# Altium integrated library Silicon Labs Audio.IntLib: 141 symbols (part 1 of 7)
Pins are listed as number, name and electrical type; pins without a type are passive.

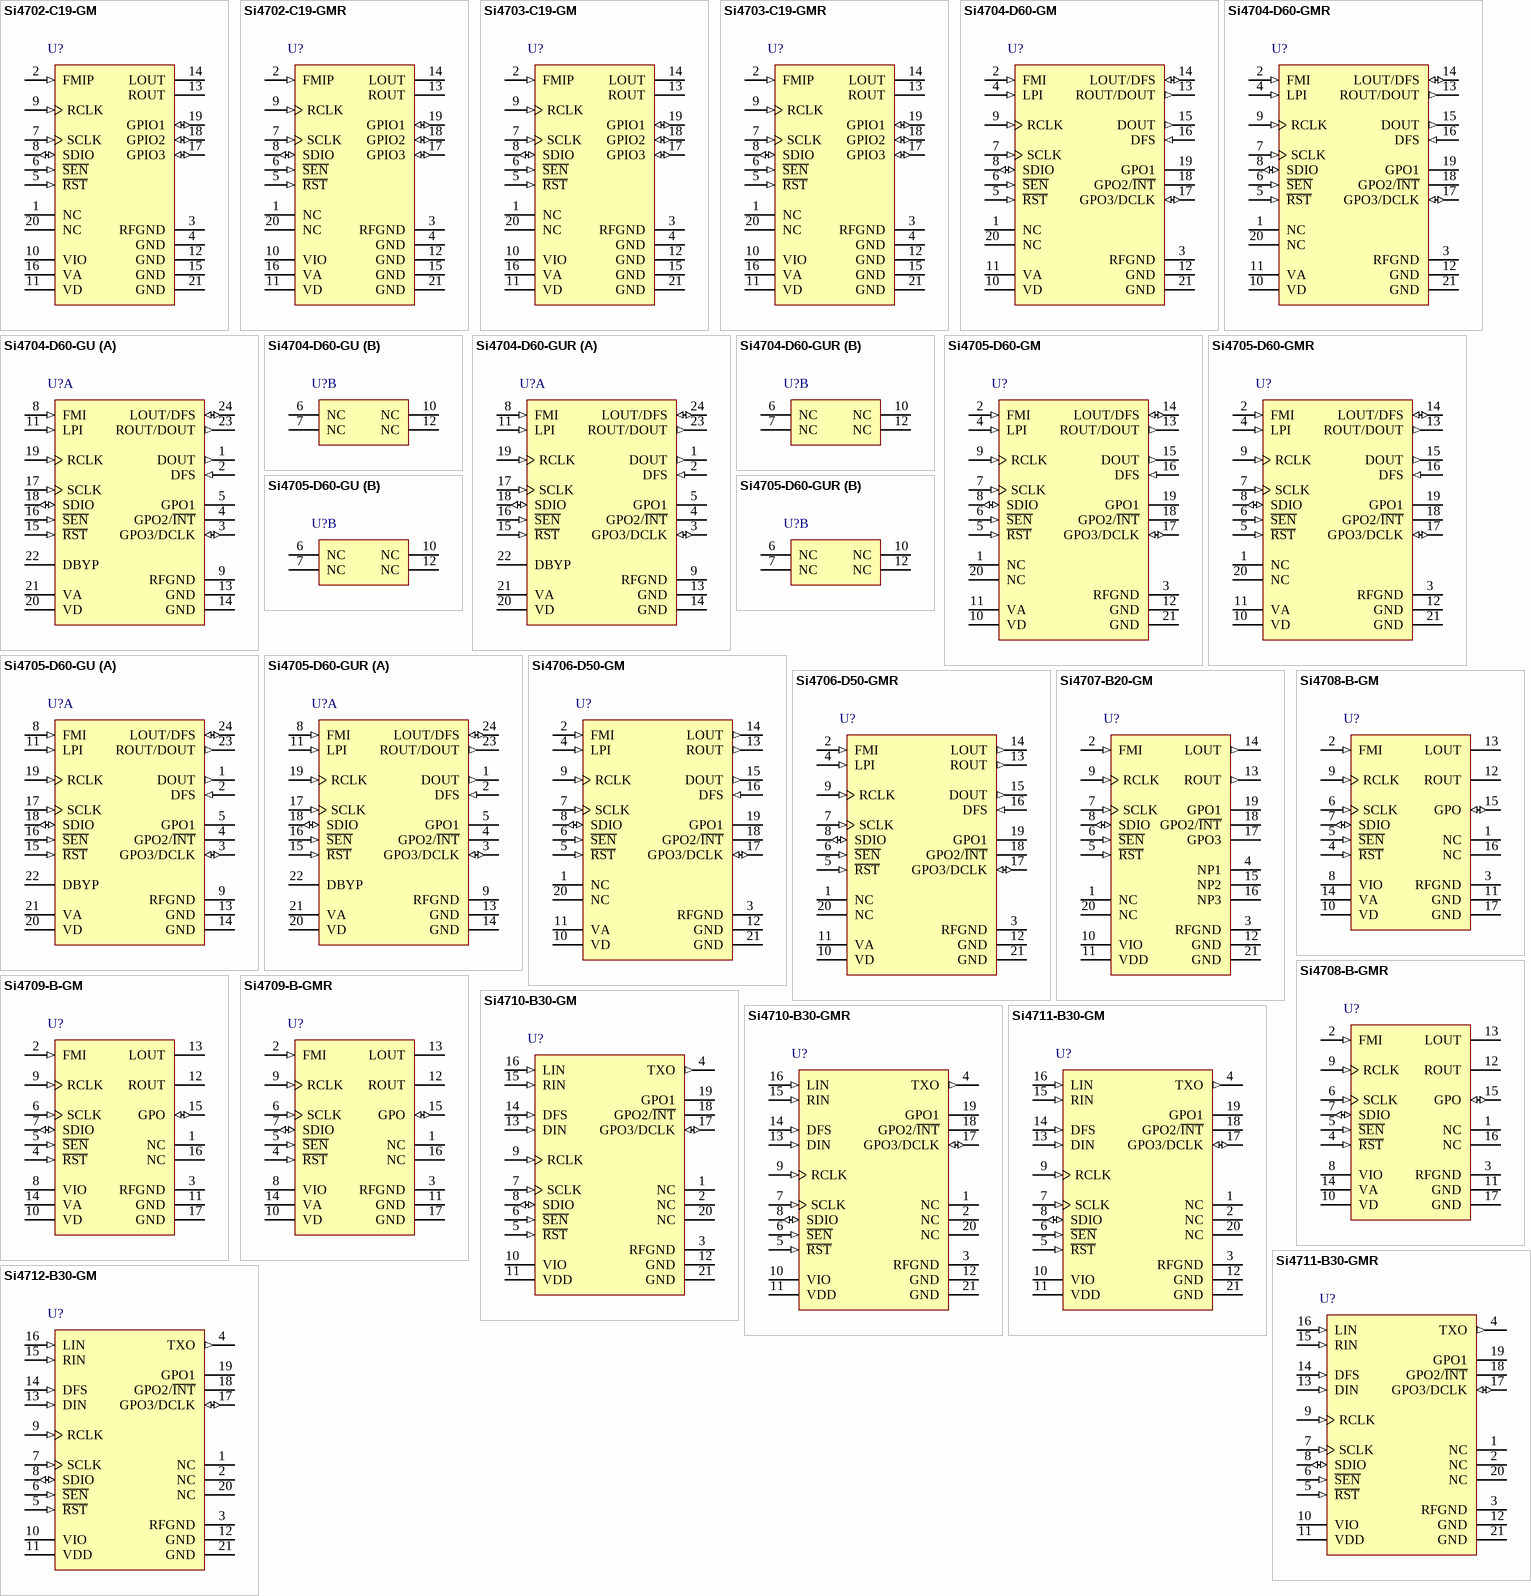
[diagram p0: symbols Si4702-C19-GM to Si4712-B30-GM]

## Si4702-C19-GM
designator U?
Broadcast FM Radio Tuner for Portable Applications, -20 to 85 degC, 20-pin QFN, Tray; Manufacturer: Silicon Labs; PartNumber: Si4702-C19-GM; RDS Support: FALSE; Sub-Family: FM Receivers; DatasheetVersion: Rev. 1.1; PackageReference: QFN-20; PackageDescription: 20-Pin Quad-Flat No-Leads Package, Body 3 x 3 mm, Pitch 0.5 mm; Supplier 1: Digi-Key; Supplier Part Number 1: 336-1738-ND; Supplier 2: Mouser; Supplier Part Number 2: 634-SI4702-C19-GM; Packing: Tray; Mounting Technology: Surface Mount; Code_IPC: J-STD-020; ComponentLink1Description: Manufacturer URL; ComponentLink1URL: http://www.silabs.com/; ComponentLink2Description: Datasheet; ComponentLink2URL: http://www.silabs.com/Support Documents/TechnicalDocs/Si4702-03-C19.pdf; ComponentLink3Description: Package Specification; ComponentLink3URL: http://www.silabs.com/Support%20Documents/TechnicalDocs/C8051F99x.pdf
footprint SLAB-QFN-20-1700x1700TP_V (QFN, 20-Leads, Body 3x3mm, Pitch 0.5mm, Thermal Pad 1.7x1.7mm)
pins: 1 NC "No Connect. Leave floating.", 2 FMIP (in) "FM RF inputs.", 3 RFGND (power) "RF ground. Connect to ground plane on PCB.", 4 GND (power) "Ground. Connect to ground plane on PCB.", 5 ~{RST} (in) "Device reset input (active low).", 6 ~{SEN} (in) "Serial enable input (active low).", 7 SCLK (in) "Serial clock input.", 8 SDIO (io) "Serial data input/output.", 9 RCLK (in) "External reference oscillator input.", 10 VIO (power) "I/O supply voltage.", 11 VD (power) "Digital supply voltage. May be connected directly to battery.", 12 GND (power) "Ground. Connect to ground plane on PCB.", 13 ROUT (hiz) "Right audio output.", 14 LOUT (hiz) "Left audio output.", 15 GND (power) "Ground. Connect to ground plane on PCB.", 16 VA (power) "Analog supply voltage. May be connected directly to battery.", 17 GPIO3 (io) "General purpose input/output.", 18 GPIO2 (io) "General purpose input/output.", 19 GPIO1 (io) "General purpose input/output.", 20 NC "No Connect. Leave floating.", 21 GND (power) "Ground. Connect to ground plane on PCB."

## Si4702-C19-GMR
designator U?
Broadcast FM Radio Tuner for Portable Applications, -20 to 85 degC, 20-pin QFN, Tape and Reel; Manufacturer: Silicon Labs; PartNumber: Si4702-C19-GMR; RDS Support: FALSE; Sub-Family: FM Receivers; DatasheetVersion: Rev. 1.1; PackageReference: QFN-20; PackageDescription: 20-Pin Quad-Flat No-Leads Package, Body 3 x 3 mm, Pitch 0.5 mm; Supplier 1: Digi-Key; Supplier Part Number 1: SI4702-C19-GMR-ND; Supplier 2: Mouser; Supplier Part Number 2: 634-SI4702-C19-GMR; Packing: Tape and Reel; Mounting Technology: Surface Mount; Code_IPC: J-STD-020; ComponentLink1Description: Manufacturer URL; ComponentLink1URL: http://www.silabs.com/; ComponentLink2Description: Datasheet; ComponentLink2URL: http://www.silabs.com/Support Documents/TechnicalDocs/Si4702-03-C19.pdf; ComponentLink3Description: Package Specification; ComponentLink3URL: http://www.silabs.com/Support%20Documents/TechnicalDocs/C8051F99x.pdf
footprint SLAB-QFN-20-1700x1700TP_V (QFN, 20-Leads, Body 3x3mm, Pitch 0.5mm, Thermal Pad 1.7x1.7mm)
pins: 1 NC "No Connect. Leave floating.", 2 FMIP (in) "FM RF inputs.", 3 RFGND (power) "RF ground. Connect to ground plane on PCB.", 4 GND (power) "Ground. Connect to ground plane on PCB.", 5 ~{RST} (in) "Device reset input (active low).", 6 ~{SEN} (in) "Serial enable input (active low).", 7 SCLK (in) "Serial clock input.", 8 SDIO (io) "Serial data input/output.", 9 RCLK (in) "External reference oscillator input.", 10 VIO (power) "I/O supply voltage.", 11 VD (power) "Digital supply voltage. May be connected directly to battery.", 12 GND (power) "Ground. Connect to ground plane on PCB.", 13 ROUT (hiz) "Right audio output.", 14 LOUT (hiz) "Left audio output.", 15 GND (power) "Ground. Connect to ground plane on PCB.", 16 VA (power) "Analog supply voltage. May be connected directly to battery.", 17 GPIO3 (io) "General purpose input/output.", 18 GPIO2 (io) "General purpose input/output.", 19 GPIO1 (io) "General purpose input/output.", 20 NC "No Connect. Leave floating.", 21 GND (power) "Ground. Connect to ground plane on PCB."

## Si4703-C19-GM
designator U?
Broadcast FM Radio Tuner for Portable Applications, -20 to 85 degC, 20-pin QFN, Tray; Manufacturer: Silicon Labs; PartNumber: Si4703-C19-GM; RDS Support: TRUE; Sub-Family: FM Receivers; DatasheetVersion: Rev. 1.1; PackageReference: QFN-20; PackageDescription: 20-Pin Quad-Flat No-Leads Package, Body 3 x 3 mm, Pitch 0.5 mm; Supplier 1: Digi-Key; Supplier Part Number 1: 336-1739-ND; Supplier 2: Mouser; Supplier Part Number 2: 634-SI4703-C19-GM; Packing: Tray; Mounting Technology: Surface Mount; Code_IPC: J-STD-020; ComponentLink1Description: Manufacturer URL; ComponentLink1URL: http://www.silabs.com/; ComponentLink2Description: Datasheet; ComponentLink2URL: http://www.silabs.com/Support Documents/TechnicalDocs/Si4702-03-C19.pdf; ComponentLink3Description: Package Specification; ComponentLink3URL: http://www.silabs.com/Support%20Documents/TechnicalDocs/C8051F99x.pdf
footprint SLAB-QFN-20-1700x1700TP_V (QFN, 20-Leads, Body 3x3mm, Pitch 0.5mm, Thermal Pad 1.7x1.7mm)
pins: 1 NC "No Connect. Leave floating.", 2 FMIP (in) "FM RF inputs.", 3 RFGND (power) "RF ground. Connect to ground plane on PCB.", 4 GND (power) "Ground. Connect to ground plane on PCB.", 5 ~{RST} (in) "Device reset input (active low).", 6 ~{SEN} (in) "Serial enable input (active low).", 7 SCLK (in) "Serial clock input.", 8 SDIO (io) "Serial data input/output.", 9 RCLK (in) "External reference oscillator input.", 10 VIO (power) "I/O supply voltage.", 11 VD (power) "Digital supply voltage. May be connected directly to battery.", 12 GND (power) "Ground. Connect to ground plane on PCB.", 13 ROUT (hiz) "Right audio output.", 14 LOUT (hiz) "Left audio output.", 15 GND (power) "Ground. Connect to ground plane on PCB.", 16 VA (power) "Analog supply voltage. May be connected directly to battery.", 17 GPIO3 (io) "General purpose input/output.", 18 GPIO2 (io) "General purpose input/output.", 19 GPIO1 (io) "General purpose input/output.", 20 NC "No Connect. Leave floating.", 21 GND (power) "Ground. Connect to ground plane on PCB."

## Si4703-C19-GMR
designator U?
Broadcast FM Radio Tuner for Portable Applications, -20 to 85 degC, 20-pin QFN, Tape and Reel; Manufacturer: Silicon Labs; PartNumber: Si4703-C19-GMR; RDS Support: TRUE; Sub-Family: FM Receivers; DatasheetVersion: Rev. 1.1; PackageReference: QFN-20; PackageDescription: 20-Pin Quad-Flat No-Leads Package, Body 3 x 3 mm, Pitch 0.5 mm; Supplier 1: Digi-Key; Supplier Part Number 1: SI4703-C19-GMR-ND; Supplier 2: Mouser; Supplier Part Number 2: 634-SI4703-C19-GMR; Packing: Tape and Reel; Mounting Technology: Surface Mount; Code_IPC: J-STD-020; ComponentLink1Description: Manufacturer URL; ComponentLink1URL: http://www.silabs.com/; ComponentLink2Description: Datasheet; ComponentLink2URL: http://www.silabs.com/Support Documents/TechnicalDocs/Si4702-03-C19.pdf; ComponentLink3Description: Package Specification; ComponentLink3URL: http://www.silabs.com/Support%20Documents/TechnicalDocs/C8051F99x.pdf
footprint SLAB-QFN-20-1700x1700TP_V (QFN, 20-Leads, Body 3x3mm, Pitch 0.5mm, Thermal Pad 1.7x1.7mm)
pins: 1 NC "No Connect. Leave floating.", 2 FMIP (in) "FM RF inputs.", 3 RFGND (power) "RF ground. Connect to ground plane on PCB.", 4 GND (power) "Ground. Connect to ground plane on PCB.", 5 ~{RST} (in) "Device reset input (active low).", 6 ~{SEN} (in) "Serial enable input (active low).", 7 SCLK (in) "Serial clock input.", 8 SDIO (io) "Serial data input/output.", 9 RCLK (in) "External reference oscillator input.", 10 VIO (power) "I/O supply voltage.", 11 VD (power) "Digital supply voltage. May be connected directly to battery.", 12 GND (power) "Ground. Connect to ground plane on PCB.", 13 ROUT (hiz) "Right audio output.", 14 LOUT (hiz) "Left audio output.", 15 GND (power) "Ground. Connect to ground plane on PCB.", 16 VA (power) "Analog supply voltage. May be connected directly to battery.", 17 GPIO3 (io) "General purpose input/output.", 18 GPIO2 (io) "General purpose input/output.", 19 GPIO1 (io) "General purpose input/output.", 20 NC "No Connect. Leave floating.", 21 GND (power) "Ground. Connect to ground plane on PCB."

## Si4704-D60-GM
designator U?
Broadcast FM Radio Receiver with RDS / RBDS, -20 to 85 degC, 20-pin QFN, Tray; Manufacturer: Silicon Labs; PartNumber: Si4704-D60-GM; RDS Support: FALSE; Sub-Family: FM Receivers; DatasheetVersion: Rev. 1.2; PackageReference: QFN-20; PackageDescription: 20-Pin Quad-Flat No-Leads Package, Body 3 x 3 mm, Pitch 0.5 mm; Supplier 1: Digi-Key; Supplier Part Number 1: SI4704-D60-GM-ND; Supplier 2: Mouser; Supplier Part Number 2: N/A; Packing: Tray; Mounting Technology: Surface Mount; Code_IPC: J-STD-020; ComponentLink1Description: Manufacturer URL; ComponentLink1URL: http://www.silabs.com/; ComponentLink2Description: Datasheet; ComponentLink2URL: http://www.silabs.com/Support Documents/TechnicalDocs/Si4704-05-D60.pdf; ComponentLink3Description: Package Specification; ComponentLink3URL: http://www.silabs.com/Support%20Documents/TechnicalDocs/C8051F99x.pdf
footprint SLAB-QFN-20-1700x1700TP_V (QFN, 20-Leads, Body 3x3mm, Pitch 0.5mm, Thermal Pad 1.7x1.7mm)
pins: 1 NC "No connect. Leave floating.", 2 FMI (in) "FM RF inputs. FMI should be connected to the antenna trace.", 3 RFGND (power) "RF ground. Connect to ground plane on PCB.", 4 LPI (in) "Embedded antenna input.", 5 ~{RST} (in) "Device reset input (active low).", 6 ~{SEN} (in) "Serial enable input (active low).", 7 SCLK (in) "Serial clock input.", 8 SDIO (io) "Serial data input/output", 9 RCLK (in) "External reference oscillator input.", 10 VD (power) "Digital and I/O supply voltage.", 11 VA (power) "Analog supply voltage. May be connected directly to battery", 12 GND (power) "Ground. Connect to ground plane on PCB", 13 ROUT/DOUT (out) "Right audio line output for analog output mode.", 14 LOUT/DFS (io) "Left audio line output for analog output mode.", 15 DOUT (out) "Digital output data for digital output mode.", 16 DFS (in) "Digital frame synchronization input for digital output mode", 17 GPO3/DCLK (io) "General purpose output, crystal oscillator, or digital bit synchronous clock input  in digital output mode.", 18 GPO2/~{INT} (hiz) "General purpose output or interrupt pin", 19 GPO1 (hiz) "General purpose output.", 20 NC "No connect. Leave floating.", 21 GND (power) "Ground. Connect to ground plane on PCB"

## Si4704-D60-GMR
designator U?
Broadcast FM Radio Receiver with RDS / RBDS, -20 to 85 degC, 20-pin QFN, Tape and Reel; Manufacturer: Silicon Labs; PartNumber: Si4704-D60-GMR; RDS Support: FALSE; Sub-Family: FM Receivers; DatasheetVersion: Rev. 1.2; PackageReference: QFN-20; PackageDescription: 20-Pin Quad-Flat No-Leads Package, Body 3 x 3 mm, Pitch 0.5 mm; Supplier 1: Digi-Key; Supplier Part Number 1: SI4704-D60-GMR-ND; Supplier 2: Mouser; Supplier Part Number 2: 634-SI4704-D60-GMR; Packing: Tape and Reel; Mounting Technology: Surface Mount; Code_IPC: J-STD-020; ComponentLink1Description: Manufacturer URL; ComponentLink1URL: http://www.silabs.com/; ComponentLink2Description: Datasheet; ComponentLink2URL: http://www.silabs.com/Support Documents/TechnicalDocs/Si4704-05-D60.pdf; ComponentLink3Description: Package Specification; ComponentLink3URL: http://www.silabs.com/Support%20Documents/TechnicalDocs/C8051F99x.pdf
footprint SLAB-QFN-20-1700x1700TP_V (QFN, 20-Leads, Body 3x3mm, Pitch 0.5mm, Thermal Pad 1.7x1.7mm)
pins: 1 NC "No connect. Leave floating.", 2 FMI (in) "FM RF inputs. FMI should be connected to the antenna trace.", 3 RFGND (power) "RF ground. Connect to ground plane on PCB.", 4 LPI (in) "Embedded antenna input.", 5 ~{RST} (in) "Device reset input (active low).", 6 ~{SEN} (in) "Serial enable input (active low).", 7 SCLK (in) "Serial clock input.", 8 SDIO (io) "Serial data input/output", 9 RCLK (in) "External reference oscillator input.", 10 VD (power) "Digital and I/O supply voltage.", 11 VA (power) "Analog supply voltage. May be connected directly to battery", 12 GND (power) "Ground. Connect to ground plane on PCB", 13 ROUT/DOUT (out) "Right audio line output for analog output mode.", 14 LOUT/DFS (io) "Left audio line output for analog output mode.", 15 DOUT (out) "Digital output data for digital output mode.", 16 DFS (in) "Digital frame synchronization input for digital output mode", 17 GPO3/DCLK (io) "General purpose output, crystal oscillator, or digital bit synchronous clock input  in digital output mode.", 18 GPO2/~{INT} (hiz) "General purpose output or interrupt pin", 19 GPO1 (hiz) "General purpose output.", 20 NC "No connect. Leave floating.", 21 GND (power) "Ground. Connect to ground plane on PCB"

## Si4704-D60-GU
designator U?
Broadcast FM Radio Receiver with RDS / RBDS, -20 to 85 degC, 24-pin SOP, Tray; Manufacturer: Silicon Labs; PartNumber: Si4704-D60-GU; RDS Support: FALSE; Sub-Family: FM Receivers; DatasheetVersion: Rev. 1.2; PackageReference: SSOP-24; PackageDescription: 24-Pin Shrink Small-Outline Package, Body 8.65 x 3.9 mm, Pitch 0.635 mm; Supplier 1: Digi-Key; Supplier Part Number 1: SI4704-D60-GU-ND; Supplier 2: Mouser; Supplier Part Number 2: N/A; Packing: Tray; Mounting Technology: Surface Mount; Code_JEDEC: MO-137; Code_IPC: J-STD-020; ComponentLink1Description: Manufacturer URL; ComponentLink1URL: http://www.silabs.com/; ComponentLink2Description: Datasheet; ComponentLink2URL: http://www.silabs.com/Support Documents/TechnicalDocs/Si4704-05-D60.pdf; ComponentLink3Description: Package Specification; ComponentLink3URL: http://www.silabs.com/Support%20Documents/TechnicalDocs/Si4704-05-D60.pdf
footprint SLAB-SSOP-24_N (SOP, 24-Leads, Body 8.7x3.9mm, Pitch 0.635mm, IPC Medium Density)
footprint SLAB-SSOP-24_L (SOP, 24-Leads, Body 8.7x3.9mm, Pitch 0.635mm, IPC High Density)
footprint SLAB-SSOP-24_M (SOP, 24-Leads, Body 8.7x3.9mm, Pitch 0.635mm, IPC Low Density)
part A pins: 1 DOUT (out) "Digital output data for digital output mode.", 2 DFS (in) "Digital frame synchronization input for digital output mode.", 3 GPO3/DCLK (io) "General purpose output, crystal oscillator, or digital bit synchronous clock input  in digital output mode.", 4 GPO2/~{INT} (hiz) "General purpose output or interrupt pin.", 5 GPO1 (hiz) "General purpose output.", 8 FMI (in) "FM RF inputs. FMI should be connected to the antenna trace.", 9 RFGND (power) "RF ground. Connect to ground plane on PCB.", 11 LPI (in) "Embedded antenna input.", 13 GND (power) "Ground. Connect to ground plane on PCB.", 14 GND (power) "Ground. Connect to ground plane on PCB.", 15 ~{RST} (in) "Device reset input (active low).", 16 ~{SEN} (in) "Serial enable input (active low).", 17 SCLK (in) "Serial clock input.", 18 SDIO (io) "Serial data input/output.", 19 RCLK (in) "External reference oscillator input.", 20 VD (power) "Digital and I/O supply voltage.", 21 VA (power) "Analog supply voltage. May be connected directly to battery.", 22 DBYP "Bypass capacitor.", 23 ROUT/DOUT (out) "Right audio line output in analog output mode.", 24 LOUT/DFS (io) "Left audio line output in analog output mode."
part B pins: 6 NC "No connect. Leave floating.", 7 NC "No connect. Leave floating.", 10 NC, 12 NC

## Si4704-D60-GUR
designator U?
Broadcast FM Radio Receiver with RDS / RBDS, -20 to 85 degC, 24-pin SOP, Tape and Reel; Manufacturer: Silicon Labs; PartNumber: Si4704-D60-GUR; RDS Support: FALSE; Sub-Family: FM Receivers; DatasheetVersion: Rev. 1.2; PackageReference: SSOP-24; PackageDescription: 24-Pin Shrink Small-Outline Package, Body 8.65 x 3.9 mm, Pitch 0.635 mm; Supplier 1: Digi-Key; Supplier Part Number 1: SI4704-D60-GUR-ND; Supplier 2: Mouser; Supplier Part Number 2: N/A; Packing: Tape and Reel; Mounting Technology: Surface Mount; Code_JEDEC: MO-137; Code_IPC: J-STD-020; ComponentLink1Description: Manufacturer URL; ComponentLink1URL: http://www.silabs.com/; ComponentLink2Description: Datasheet; ComponentLink2URL: http://www.silabs.com/Support Documents/TechnicalDocs/Si4704-05-D60.pdf; ComponentLink3Description: Package Specification; ComponentLink3URL: http://www.silabs.com/Support%20Documents/TechnicalDocs/Si4704-05-D60.pdf
footprint SLAB-SSOP-24_N (SOP, 24-Leads, Body 8.7x3.9mm, Pitch 0.635mm, IPC Medium Density)
footprint SLAB-SSOP-24_L (SOP, 24-Leads, Body 8.7x3.9mm, Pitch 0.635mm, IPC High Density)
footprint SLAB-SSOP-24_M (SOP, 24-Leads, Body 8.7x3.9mm, Pitch 0.635mm, IPC Low Density)
part A pins: 1 DOUT (out) "Digital output data for digital output mode.", 2 DFS (in) "Digital frame synchronization input for digital output mode.", 3 GPO3/DCLK (io) "General purpose output, crystal oscillator, or digital bit synchronous clock input  in digital output mode.", 4 GPO2/~{INT} (hiz) "General purpose output or interrupt pin.", 5 GPO1 (hiz) "General purpose output.", 8 FMI (in) "FM RF inputs. FMI should be connected to the antenna trace.", 9 RFGND (power) "RF ground. Connect to ground plane on PCB.", 11 LPI (in) "Embedded antenna input.", 13 GND (power) "Ground. Connect to ground plane on PCB.", 14 GND (power) "Ground. Connect to ground plane on PCB.", 15 ~{RST} (in) "Device reset input (active low).", 16 ~{SEN} (in) "Serial enable input (active low).", 17 SCLK (in) "Serial clock input.", 18 SDIO (io) "Serial data input/output.", 19 RCLK (in) "External reference oscillator input.", 20 VD (power) "Digital and I/O supply voltage.", 21 VA (power) "Analog supply voltage. May be connected directly to battery.", 22 DBYP "Bypass capacitor.", 23 ROUT/DOUT (out) "Right audio line output in analog output mode.", 24 LOUT/DFS (io) "Left audio line output in analog output mode."
part B pins: 6 NC "No connect. Leave floating.", 7 NC "No connect. Leave floating.", 10 NC, 12 NC

## Si4705-D60-GM
designator U?
Broadcast FM Radio Receiver with RDS / RBDS, -20 to 85 degC, 20-pin QFN, Tray; Manufacturer: Silicon Labs; PartNumber: Si4705-D60-GM; RDS Support: TRUE; Sub-Family: FM Receivers; DatasheetVersion: Rev. 1.2; PackageReference: QFN-20; PackageDescription: 20-Pin Quad-Flat No-Leads Package, Body 3 x 3 mm, Pitch 0.5 mm; Supplier 1: Digi-Key; Supplier Part Number 1: SI4705-D60-GM-ND; Supplier 2: Mouser; Supplier Part Number 2: N/A; Packing: Tray; Mounting Technology: Surface Mount; Code_IPC: J-STD-020; ComponentLink1Description: Manufacturer URL; ComponentLink1URL: http://www.silabs.com/; ComponentLink2Description: Datasheet; ComponentLink2URL: http://www.silabs.com/Support%20Documents/TechnicalDocs/Si4704-05-D60.pdf; ComponentLink3Description: Package Specification; ComponentLink3URL: http://www.silabs.com/Support%20Documents/TechnicalDocs/C8051F99x.pdf
footprint SLAB-QFN-20-1700x1700TP_V (QFN, 20-Leads, Body 3x3mm, Pitch 0.5mm, Thermal Pad 1.7x1.7mm)
pins: 1 NC "No connect. Leave floating.", 2 FMI (in) "FM RF inputs. FMI should be connected to the antenna trace.", 3 RFGND (power) "RF ground. Connect to ground plane on PCB.", 4 LPI (in) "Embedded antenna input.", 5 ~{RST} (in) "Device reset input (active low).", 6 ~{SEN} (in) "Serial enable input (active low).", 7 SCLK (in) "Serial clock input.", 8 SDIO (io) "Serial data input/output", 9 RCLK (in) "External reference oscillator input.", 10 VD (power) "Digital and I/O supply voltage.", 11 VA (power) "Analog supply voltage. May be connected directly to battery", 12 GND (power) "Ground. Connect to ground plane on PCB", 13 ROUT/DOUT (out) "Right audio line output for analog output mode.", 14 LOUT/DFS (io) "Left audio line output for analog output mode.", 15 DOUT (out) "Digital output data for digital output mode.", 16 DFS (in) "Digital frame synchronization input for digital output mode", 17 GPO3/DCLK (io) "General purpose output, crystal oscillator, or digital bit synchronous clock input  in digital output mode.", 18 GPO2/~{INT} (hiz) "General purpose output or interrupt pin", 19 GPO1 (hiz) "General purpose output.", 20 NC "No connect. Leave floating.", 21 GND (power) "Ground. Connect to ground plane on PCB"

## Si4705-D60-GMR
designator U?
Broadcast FM Radio Receiver with RDS / RBDS, -20 to 85 degC, 20-pin QFN, Tape and Reel; Manufacturer: Silicon Labs; PartNumber: Si4705-D60-GMR; RDS Support: TRUE; Sub-Family: FM Receivers; DatasheetVersion: Rev. 1.2; PackageReference: QFN-20; PackageDescription: 20-Pin Quad-Flat No-Leads Package, Body 3 x 3 mm, Pitch 0.5 mm; Supplier 1: Digi-Key; Supplier Part Number 1: SI4705-D60-GMR-ND; Supplier 2: Mouser; Supplier Part Number 2: N/A; Packing: Tape and Reel; Mounting Technology: Surface Mount; Code_IPC: J-STD-020; ComponentLink1Description: Manufacturer URL; ComponentLink1URL: http://www.silabs.com/; ComponentLink2Description: Datasheet; ComponentLink2URL: http://www.silabs.com/Support%20Documents/TechnicalDocs/Si4704-05-D60.pdf; ComponentLink3Description: Package Specification; ComponentLink3URL: http://www.silabs.com/Support%20Documents/TechnicalDocs/C8051F99x.pdf
footprint SLAB-QFN-20-1700x1700TP_V (QFN, 20-Leads, Body 3x3mm, Pitch 0.5mm, Thermal Pad 1.7x1.7mm)
pins: 1 NC "No connect. Leave floating.", 2 FMI (in) "FM RF inputs. FMI should be connected to the antenna trace.", 3 RFGND (power) "RF ground. Connect to ground plane on PCB.", 4 LPI (in) "Embedded antenna input.", 5 ~{RST} (in) "Device reset input (active low).", 6 ~{SEN} (in) "Serial enable input (active low).", 7 SCLK (in) "Serial clock input.", 8 SDIO (io) "Serial data input/output", 9 RCLK (in) "External reference oscillator input.", 10 VD (power) "Digital and I/O supply voltage.", 11 VA (power) "Analog supply voltage. May be connected directly to battery", 12 GND (power) "Ground. Connect to ground plane on PCB", 13 ROUT/DOUT (out) "Right audio line output for analog output mode.", 14 LOUT/DFS (io) "Left audio line output for analog output mode.", 15 DOUT (out) "Digital output data for digital output mode.", 16 DFS (in) "Digital frame synchronization input for digital output mode", 17 GPO3/DCLK (io) "General purpose output, crystal oscillator, or digital bit synchronous clock input  in digital output mode.", 18 GPO2/~{INT} (hiz) "General purpose output or interrupt pin", 19 GPO1 (hiz) "General purpose output.", 20 NC "No connect. Leave floating.", 21 GND (power) "Ground. Connect to ground plane on PCB"

## Si4705-D60-GU
designator U?
Broadcast FM Radio Receiver with RDS / RBDS, -20 to 85 degC, 24-pin SOP, Tray; Manufacturer: Silicon Labs; PartNumber: Si4705-D60-GU; RDS Support: TRUE; Sub-Family: FM Receivers; DatasheetVersion: Rev. 1.2; PackageReference: SSOP-24; PackageDescription: 24-Pin Shrink Small-Outline Package, Body 8.65 x 3.9 mm, Pitch 0.635 mm; Supplier 1: Digi-Key; Supplier Part Number 1: SI4705-D60-GU-ND; Supplier 2: Mouser; Supplier Part Number 2: 634-SI4705-D60-GU; Packing: Tray; Mounting Technology: Surface Mount; Code_JEDEC: MO-137; Code_IPC: J-STD-020; ComponentLink1Description: Manufacturer URL; ComponentLink1URL: http://www.silabs.com/; ComponentLink2Description: Datasheet; ComponentLink2URL: http://www.silabs.com/Support%20Documents/TechnicalDocs/Si4704-05-D60.pdf; ComponentLink3Description: Package Specification; ComponentLink3URL: http://www.silabs.com/Support%20Documents/TechnicalDocs/Si4704-05-D60.pdf
footprint SLAB-SSOP-24_N (SOP, 24-Leads, Body 8.7x3.9mm, Pitch 0.635mm, IPC Medium Density)
footprint SLAB-SSOP-24_L (SOP, 24-Leads, Body 8.7x3.9mm, Pitch 0.635mm, IPC High Density)
footprint SLAB-SSOP-24_M (SOP, 24-Leads, Body 8.7x3.9mm, Pitch 0.635mm, IPC Low Density)
part A pins: 1 DOUT (out) "Digital output data for digital output mode.", 2 DFS (in) "Digital frame synchronization input for digital output mode.", 3 GPO3/DCLK (io) "General purpose output, crystal oscillator, or digital bit synchronous clock input  in digital output mode.", 4 GPO2/~{INT} (hiz) "General purpose output or interrupt pin.", 5 GPO1 (hiz) "General purpose output.", 8 FMI (in) "FM RF inputs. FMI should be connected to the antenna trace.", 9 RFGND (power) "RF ground. Connect to ground plane on PCB.", 11 LPI (in) "Embedded antenna input.", 13 GND (power) "Ground. Connect to ground plane on PCB.", 14 GND (power) "Ground. Connect to ground plane on PCB.", 15 ~{RST} (in) "Device reset input (active low).", 16 ~{SEN} (in) "Serial enable input (active low).", 17 SCLK (in) "Serial clock input.", 18 SDIO (io) "Serial data input/output.", 19 RCLK (in) "External reference oscillator input.", 20 VD (power) "Digital and I/O supply voltage.", 21 VA (power) "Analog supply voltage. May be connected directly to battery.", 22 DBYP "Bypass capacitor.", 23 ROUT/DOUT (out) "Right audio line output in analog output mode.", 24 LOUT/DFS (io) "Left audio line output in analog output mode."
part B pins: 6 NC "No connect. Leave floating.", 7 NC "No connect. Leave floating.", 10 NC, 12 NC

## Si4705-D60-GUR
designator U?
Broadcast FM Radio Receiver with RDS / RBDS, -20 to 85 degC, 24-pin SOP, Tape and Reel; Manufacturer: Silicon Labs; PartNumber: Si4705-D60-GUR; RDS Support: TRUE; Sub-Family: FM Receivers; DatasheetVersion: Rev. 1.2; PackageReference: SSOP-24; PackageDescription: 24-Pin Shrink Small-Outline Package, Body 8.65 x 3.9 mm, Pitch 0.635 mm; Supplier 1: Digi-Key; Supplier Part Number 1: SI4705-D60-GUR-ND; Supplier 2: Mouser; Supplier Part Number 2: 634-SI4705-D60-GUR; Packing: Tape and Reel; Mounting Technology: Surface Mount; Code_JEDEC: MO-137; Code_IPC: J-STD-020; ComponentLink1Description: Manufacturer URL; ComponentLink1URL: http://www.silabs.com/; ComponentLink2Description: Datasheet; ComponentLink2URL: http://www.silabs.com/Support%20Documents/TechnicalDocs/Si4704-05-D60.pdf; ComponentLink3Description: Package Specification; ComponentLink3URL: http://www.silabs.com/Support%20Documents/TechnicalDocs/Si4704-05-D60.pdf
footprint SLAB-SSOP-24_N (SOP, 24-Leads, Body 8.7x3.9mm, Pitch 0.635mm, IPC Medium Density)
footprint SLAB-SSOP-24_L (SOP, 24-Leads, Body 8.7x3.9mm, Pitch 0.635mm, IPC High Density)
footprint SLAB-SSOP-24_M (SOP, 24-Leads, Body 8.7x3.9mm, Pitch 0.635mm, IPC Low Density)
part A pins: 1 DOUT (out) "Digital output data for digital output mode.", 2 DFS (in) "Digital frame synchronization input for digital output mode.", 3 GPO3/DCLK (io) "General purpose output, crystal oscillator, or digital bit synchronous clock input  in digital output mode.", 4 GPO2/~{INT} (hiz) "General purpose output or interrupt pin.", 5 GPO1 (hiz) "General purpose output.", 8 FMI (in) "FM RF inputs. FMI should be connected to the antenna trace.", 9 RFGND (power) "RF ground. Connect to ground plane on PCB.", 11 LPI (in) "Embedded antenna input.", 13 GND (power) "Ground. Connect to ground plane on PCB.", 14 GND (power) "Ground. Connect to ground plane on PCB.", 15 ~{RST} (in) "Device reset input (active low).", 16 ~{SEN} (in) "Serial enable input (active low).", 17 SCLK (in) "Serial clock input.", 18 SDIO (io) "Serial data input/output.", 19 RCLK (in) "External reference oscillator input.", 20 VD (power) "Digital and I/O supply voltage.", 21 VA (power) "Analog supply voltage. May be connected directly to battery.", 22 DBYP "Bypass capacitor.", 23 ROUT/DOUT (out) "Right audio line output in analog output mode.", 24 LOUT/DFS (io) "Left audio line output in analog output mode."
part B pins: 6 NC "No connect. Leave floating.", 7 NC "No connect. Leave floating.", 10 NC, 12 NC

## Si4706-D50-GM
designator U?
High-Performance FM and RDS / RBDS Receiver, -20 to 85 degC, 20-pin QFN, Tray; Manufacturer: Silicon Labs; PartNumber: Si4706-D50-GM; RDS Support: TRUE; Sub-Family: RDS Data Receivers; DatasheetVersion: Rev. 1.0; PackageReference: QFN-20; PackageDescription: 20-Pin Quad-Flat No-Leads Package, Body 3 x 3 mm, Pitch 0.5 mm; Supplier 1: Digi-Key; Supplier Part Number 1: 336-2526-ND; Supplier 2: Mouser; Supplier Part Number 2: 634-SI4706-D50-GM; Packing: Tray; Mounting Technology: Surface Mount; Code_IPC: J-STD-020; ComponentLink1Description: Manufacturer URL; ComponentLink1URL: http://www.silabs.com/; ComponentLink2Description: Datasheet; ComponentLink2URL: http://www.silabs.com/Support Documents/TechnicalDocs/Si4706-D50.pdf; ComponentLink3Description: Package Specification; ComponentLink3URL: http://www.silabs.com/Support%20Documents/TechnicalDocs/C8051F99x.pdf
footprint SLAB-QFN-20-1700x1700TP_V (QFN, 20-Leads, Body 3x3mm, Pitch 0.5mm, Thermal Pad 1.7x1.7mm)
pins: 1 NC "No connect. Leave floating.", 2 FMI (in) "FM RF input.", 3 RFGND (power) "RF ground. Connect to ground plane on PCB.", 4 LPI (in) "Loop antenna RF input.", 5 ~{RST} (in) "Device reset input (active low).", 6 ~{SEN} (in) "Serial enable input (active low).", 7 SCLK (in) "Serial clock input.", 8 SDIO (io) "Serial data input/output.", 9 RCLK (in) "External reference or crystal oscillator input.", 10 VD (power) "Digital and I/O supply voltage.", 11 VA (power) "Analog supply voltage. May be connected directly to battery.", 12 GND (power) "Ground. Connect to ground plane on PCB.", 13 ROUT (out) "Right audio analog line output.", 14 LOUT (out) "Left audio analog line output.", 15 DOUT (out) "Digital audio output data.", 16 DFS (in) "Digital frame synchronization.", 17 GPO3/DCLK (io) "General purpose output/digital bit synchronous clock or crystal oscillator input.", 18 GPO2/~{INT} (hiz) "General purpose output/interrupt.", 19 GPO1 (hiz) "General purpose output.", 20 NC "No connect. Leave floating.", 21 GND (power) "Ground. Connect to ground plane on PCB."

## Si4706-D50-GMR
designator U?
High-Performance FM and RDS / RBDS Receiver, -20 to 85 degC, 20-pin QFN, Tape and Reel; Manufacturer: Silicon Labs; PartNumber: Si4706-D50-GMR; RDS Support: TRUE; Sub-Family: RDS Data Receivers; DatasheetVersion: Rev. 1.0; PackageReference: QFN-20; PackageDescription: 20-Pin Quad-Flat No-Leads Package, Body 3 x 3 mm, Pitch 0.5 mm; Supplier 1: Digi-Key; Supplier Part Number 1: SI4706-D50-GMR-ND; Supplier 2: Mouser; Supplier Part Number 2: 634-SI4706-D50-GMR; Packing: Tape and Reel; Mounting Technology: Surface Mount; Code_IPC: J-STD-020; ComponentLink1Description: Manufacturer URL; ComponentLink1URL: http://www.silabs.com/; ComponentLink2Description: Datasheet; ComponentLink2URL: http://www.silabs.com/Support Documents/TechnicalDocs/Si4706-D50.pdf; ComponentLink3Description: Package Specification; ComponentLink3URL: http://www.silabs.com/Support%20Documents/TechnicalDocs/C8051F99x.pdf
footprint SLAB-QFN-20-1700x1700TP_V (QFN, 20-Leads, Body 3x3mm, Pitch 0.5mm, Thermal Pad 1.7x1.7mm)
pins: 1 NC "No connect. Leave floating.", 2 FMI (in) "FM RF input.", 3 RFGND (power) "RF ground. Connect to ground plane on PCB.", 4 LPI (in) "Loop antenna RF input.", 5 ~{RST} (in) "Device reset input (active low).", 6 ~{SEN} (in) "Serial enable input (active low).", 7 SCLK (in) "Serial clock input.", 8 SDIO (io) "Serial data input/output.", 9 RCLK (in) "External reference or crystal oscillator input.", 10 VD (power) "Digital and I/O supply voltage.", 11 VA (power) "Analog supply voltage. May be connected directly to battery.", 12 GND (power) "Ground. Connect to ground plane on PCB.", 13 ROUT (out) "Right audio analog line output.", 14 LOUT (out) "Left audio analog line output.", 15 DOUT (out) "Digital audio output data.", 16 DFS (in) "Digital frame synchronization.", 17 GPO3/DCLK (io) "General purpose output/digital bit synchronous clock or crystal oscillator input.", 18 GPO2/~{INT} (hiz) "General purpose output/interrupt.", 19 GPO1 (hiz) "General purpose output.", 20 NC "No connect. Leave floating.", 21 GND (power) "Ground. Connect to ground plane on PCB."

## Si4707-B20-GM
designator U?
Weather Band and Same Data Receiver, -20 to 85 degC, 20-pin QFN, Tray; Manufacturer: Silicon Labs; PartNumber: Si4707-B20-GM; RDS Support: TRUE; Sub-Family: AM/FM, Shortwave, Longwave, Weather Band Receivers; DatasheetVersion: Rev. 0.8; PackageReference: QFN-20; PackageDescription: 20-Pin Quad-Flat No-Leads Package, Body 3 x 3 mm, Pitch 0.5 mm; Supplier 1: Digi-Key; Supplier Part Number 1: 336-2147-ND; Mounting Technology: Surface Mount; Code_IPC: J-STD-020; ComponentLink1Description: Manufacturer URL; ComponentLink1URL: http://www.silabs.com/; ComponentLink2Description: Datasheet; ComponentLink2URL: http://www.silabs.com/Support Documents/TechnicalDocs/Si4707-B20.pdf; ComponentLink3Description: Package Specification; ComponentLink3URL: http://www.silabs.com/Support%20Documents/TechnicalDocs/C8051F99x.pdf
footprint SLAB-QFN-20-1700x1700TP_V (QFN, 20-Leads, Body 3x3mm, Pitch 0.5mm, Thermal Pad 1.7x1.7mm)
pins: 1 NC "No connect. Leave floating.", 2 FMI (in) "WB RF input. FMI should be connected to the antenna trace.", 3 RFGND (power) "RF ground. Connect to ground plane on PCB.", 4 NP1 "Unused. Recommend connect to ground.", 5 ~{RST} (in) "Device reset (active low) input.", 6 ~{SEN} (in) "Serial enable input (active low).", 7 SCLK (in) "Serial clock input.", 8 SDIO (io) "Serial data input/output.", 9 RCLK (in) "External reference oscillator input.", 10 VIO (power) "I/O supply voltage.", 11 VDD (power) "Supply voltage. May be connected directly to battery.", 12 GND (power) "Ground. Connect to ground plane on PCB.", 13 ROUT (out) "Right audio line output in analog.", 14 LOUT (out) "Left audio line output in analog.", 15 NP2 "Unused. Recommend connect to ground.", 16 NP3 "Unused. Recommend connect to ground.", 17 GPO3 (hiz) "General purpose output or crystal oscillator.", 18 GPO2/~{INT} (hiz) "General purpose output or interrupt pin.", 19 GPO1 (hiz) "General purpose output.", 20 NC "No connect. Leave floating.", 21 GND (power) "Ground. Connect to ground plane on PCB."

## Si4708-B-GM
designator U?
Broadcast FM Radio Tuner for Portable Applications, -20 to 85 degC, 16-pin QFN, Tube; Manufacturer: Silicon Labs; PartNumber: Si4708-B-GM; RDS Support: FALSE; Sub-Family: FM Receivers; DatasheetVersion: Rev. 1.4; PackageReference: QFN-16; PackageDescription: 16-Pin Quad Flat No-Leads Package, Body 2.5 x 2.5 mm, Pitch 0.5 mm; Supplier 1: Digi-Key; Supplier Part Number 1: SI4708-B-GM-ND; Packing: Tube; Mounting Technology: Surface Mount; Code_IPC: J-STD-020C; ComponentLink1Description: Manufacturer URL; ComponentLink1URL: http://www.silabs.com/; ComponentLink2Description: Datasheet; ComponentLink2URL: http://www.silabs.com/Support Documents/TechnicalDocs/Not-Rec-for-New-Designs-Si4708-09-B.pdf; ComponentLink3Description: Package Specification; ComponentLink3URL: http://www.silabs.com/Support%20Documents/TechnicalDocs/Not-Rec-for-New-Designs-Si4708-09-B.pdf
footprint SLAB-QFN-16-1400x1400TP_V (QFN, 16-Leads, Body 2.5x2.5mm, Pitch 0.5mm, Thermal Pad 1.4x1.4mm)
pins: 1 NC "No Connect. Leave floating.", 2 FMI (in) "FM RF inputs.", 3 RFGND (power) "RF ground. Connect to ground plane on PCB.", 4 ~{RST} (in) "Device reset input (active low).", 5 ~{SEN} (in) "Serial enable input (active low).", 6 SCLK (in) "Serial clock input.", 7 SDIO (io) "Serial data input/output.", 8 VIO (power) "I/O supply voltage.", 9 RCLK (in) "External reference oscillator input.", 10 VD (power) "Digital supply voltage. May be connected directly to battery.", 11 GND (power) "Ground. Connect to ground plane on PCB.", 12 ROUT (hiz) "Right audio output.", 13 LOUT (hiz) "Left audio output.", 14 VA (power) "Analog supply voltage. May be connected directly to battery.", 15 GPO (io) "General purpose input/output.", 16 NC "No Connect. Leave floating.", 17 GND (power) "Ground. Connect to ground plane on PCB."

## Si4708-B-GMR
designator U?
Broadcast FM Radio Tuner for Portable Applications, -20 to 85 degC, 16-pin QFN, Tape and Reel; Manufacturer: Silicon Labs; PartNumber: Si4708-B-GMR; RDS Support: FALSE; Sub-Family: FM Receivers; DatasheetVersion: Rev. 1.4; PackageReference: QFN-16; PackageDescription: 16-Pin Quad Flat No-Leads Package, Body 2.5 x 2.5 mm, Pitch 0.5 mm; Supplier 1: Digi-Key; Supplier Part Number 1: SI4708-B-GMR-ND; Supplier 2: Mouser; Supplier Part Number 2: N/A; Packing: Tape and Reel; Mounting Technology: Surface Mount; Code_IPC: J-STD-020C; ComponentLink1Description: Manufacturer URL; ComponentLink1URL: http://www.silabs.com/; ComponentLink2Description: Datasheet; ComponentLink2URL: http://www.silabs.com/Support Documents/TechnicalDocs/Not-Rec-for-New-Designs-Si4708-09-B.pdf; ComponentLink3Description: Package Specification; ComponentLink3URL: http://www.silabs.com/Support%20Documents/TechnicalDocs/Not-Rec-for-New-Designs-Si4708-09-B.pdf
footprint SLAB-QFN-16-1400x1400TP_V (QFN, 16-Leads, Body 2.5x2.5mm, Pitch 0.5mm, Thermal Pad 1.4x1.4mm)
pins: 1 NC "No Connect. Leave floating.", 2 FMI (in) "FM RF inputs.", 3 RFGND (power) "RF ground. Connect to ground plane on PCB.", 4 ~{RST} (in) "Device reset input (active low).", 5 ~{SEN} (in) "Serial enable input (active low).", 6 SCLK (in) "Serial clock input.", 7 SDIO (io) "Serial data input/output.", 8 VIO (power) "I/O supply voltage.", 9 RCLK (in) "External reference oscillator input.", 10 VD (power) "Digital supply voltage. May be connected directly to battery.", 11 GND (power) "Ground. Connect to ground plane on PCB.", 12 ROUT (hiz) "Right audio output.", 13 LOUT (hiz) "Left audio output.", 14 VA (power) "Analog supply voltage. May be connected directly to battery.", 15 GPO (io) "General purpose input/output.", 16 NC "No Connect. Leave floating.", 17 GND (power) "Ground. Connect to ground plane on PCB."

## Si4709-B-GM
designator U?
Broadcast FM Radio Tuner for Portable Applications, -20 to 85 degC, 16-pin QFN, Tray; Manufacturer: Silicon Labs; PartNumber: Si4709-B-GM; RDS Support: TRUE; Sub-Family: FM Receivers; DatasheetVersion: Rev. 1.4; PackageReference: QFN-16; PackageDescription: 16-Pin Quad Flat No-Leads Package, Body 2.5 x 2.5 mm, Pitch 0.5 mm; Supplier 1: Digi-Key; Supplier Part Number 1: SI4709-B-GM-ND; Packing: Tray; Mounting Technology: Surface Mount; Code_IPC: J-STD-020C; ComponentLink1Description: Manufacturer URL; ComponentLink1URL: http://www.silabs.com/; ComponentLink2Description: Datasheet; ComponentLink2URL: http://www.silabs.com/Support Documents/TechnicalDocs/Not-Rec-for-New-Designs-Si4708-09-B.pdf; ComponentLink3Description: Package Specification; ComponentLink3URL: http://www.silabs.com/Support%20Documents/TechnicalDocs/Not-Rec-for-New-Designs-Si4708-09-B.pdf
footprint SLAB-QFN-16-1400x1400TP_V (QFN, 16-Leads, Body 2.5x2.5mm, Pitch 0.5mm, Thermal Pad 1.4x1.4mm)
pins: 1 NC "No Connect. Leave floating.", 2 FMI (in) "FM RF inputs.", 3 RFGND (power) "RF ground. Connect to ground plane on PCB.", 4 ~{RST} (in) "Device reset input (active low).", 5 ~{SEN} (in) "Serial enable input (active low).", 6 SCLK (in) "Serial clock input.", 7 SDIO (io) "Serial data input/output.", 8 VIO (power) "I/O supply voltage.", 9 RCLK (in) "External reference oscillator input.", 10 VD (power) "Digital supply voltage. May be connected directly to battery.", 11 GND (power) "Ground. Connect to ground plane on PCB.", 12 ROUT (hiz) "Right audio output.", 13 LOUT (hiz) "Left audio output.", 14 VA (power) "Analog supply voltage. May be connected directly to battery.", 15 GPO (io) "General purpose input/output.", 16 NC "No Connect. Leave floating.", 17 GND (power) "Ground. Connect to ground plane on PCB."

## Si4709-B-GMR
designator U?
Broadcast FM Radio Tuner for Portable Applications, -20 to 85 degC, 16-pin QFN, Tape and Reel; Manufacturer: Silicon Labs; PartNumber: Si4709-B-GMR; RDS Support: TRUE; Sub-Family: FM Receivers; DatasheetVersion: Rev. 1.4; PackageReference: QFN-16; PackageDescription: 16-Pin Quad Flat No-Leads Package, Body 2.5 x 2.5 mm, Pitch 0.5 mm; Supplier 1: Digi-Key; Supplier Part Number 1: SI4709-B-GMR-ND; Supplier 2: Mouser; Supplier Part Number 2: N/A; Packing: Tape and Reel; Mounting Technology: Surface Mount; Code_IPC: J-STD-020C; ComponentLink1Description: Manufacturer URL; ComponentLink1URL: http://www.silabs.com/; ComponentLink2Description: Datasheet; ComponentLink2URL: http://www.silabs.com/Support Documents/TechnicalDocs/Not-Rec-for-New-Designs-Si4708-09-B.pdf; ComponentLink3Description: Package Specification; ComponentLink3URL: http://www.silabs.com/Support%20Documents/TechnicalDocs/Not-Rec-for-New-Designs-Si4708-09-B.pdf
footprint SLAB-QFN-16-1400x1400TP_V (QFN, 16-Leads, Body 2.5x2.5mm, Pitch 0.5mm, Thermal Pad 1.4x1.4mm)
pins: 1 NC "No Connect. Leave floating.", 2 FMI (in) "FM RF inputs.", 3 RFGND (power) "RF ground. Connect to ground plane on PCB.", 4 ~{RST} (in) "Device reset input (active low).", 5 ~{SEN} (in) "Serial enable input (active low).", 6 SCLK (in) "Serial clock input.", 7 SDIO (io) "Serial data input/output.", 8 VIO (power) "I/O supply voltage.", 9 RCLK (in) "External reference oscillator input.", 10 VD (power) "Digital supply voltage. May be connected directly to battery.", 11 GND (power) "Ground. Connect to ground plane on PCB.", 12 ROUT (hiz) "Right audio output.", 13 LOUT (hiz) "Left audio output.", 14 VA (power) "Analog supply voltage. May be connected directly to battery.", 15 GPO (io) "General purpose input/output.", 16 NC "No Connect. Leave floating.", 17 GND (power) "Ground. Connect to ground plane on PCB."

## Si4710-B30-GM
designator U?
Si4710/11-B30 FM Radio Transmitter, -20 to 85 degC, 20-pin QFN, Tray; Manufacturer: Silicon Labs; PartNumber: Si4710-B30-GM; RDS Support: FALSE; Sub-Family: FM Transmitters; DatasheetVersion: Rev. 1.1; PackageReference: QFN-20; PackageDescription: 20-Pin Quad-Flat No-Leads Package, Body 3 x 3 mm, Pitch 0.5 mm; Supplier 1: Digi-Key; Supplier Part Number 1: 336-1741-ND; Supplier 2: Mouser; Supplier Part Number 2: 634-SI4710-B30-GM; Packing: Tray; Mounting Technology: Surface Mount; Code_IPC: J-STD-020; ComponentLink1Description: Manufacturer URL; ComponentLink1URL: http://www.silabs.com/; ComponentLink2Description: Datasheet; ComponentLink2URL: http://www.silabs.com/Support%20Documents/TechnicalDocs/Si4710-11-B30.pdf; ComponentLink3Description: Package Specification; ComponentLink3URL: http://www.silabs.com/Support%20Documents/TechnicalDocs/C8051F99x.pdf
footprint SLAB-QFN-20-1700x1700TP_V (QFN, 20-Leads, Body 3x3mm, Pitch 0.5mm, Thermal Pad 1.7x1.7mm)
pins: 1 NC "No connect. Leave floating.", 2 NC "No connect. Leave floating.", 3 RFGND (power) "RF ground. Connect to ground plane on PCB.", 4 TXO (out) "FM transmit output connection to transmit antenna", 5 ~{RST} (in) "Device reset (active low) input.", 6 ~{SEN} (in) "Serial enable input (active low).", 7 SCLK (in) "Serial clock input.", 8 SDIO (io) "Serial data input/output.", 9 RCLK (in) "External reference oscillator input.", 10 VIO (power) "I/O supply voltage.", 11 VDD (power) "Supply voltage. May be connected directly to battery.", 12 GND (power) "Ground. Connect to ground plane on PCB.", 13 DIN (in) "Digital input data.", 14 DFS (in) "Digital frame synchronization input.", 15 RIN (in) "Right audio line input.", 16 LIN (in) "Left audio line input.", 17 GPO3/DCLK (io) "General purpose output/digital bit synchronous clock input.", 18 GPO2/~{INT} (hiz) "General purpose output/interrupt request.", 19 GPO1 (hiz) "General purpose output.", 20 NC "No connect. Leave floating.", 21 GND (power) "Ground. Connect to ground plane on PCB."

## Si4710-B30-GMR
designator U?
Si4710/11-B30 FM Radio Transmitter, -20 to 85 degC, 20-pin QFN, Tape and Reel; Manufacturer: Silicon Labs; PartNumber: Si4710-B30-GMR; RDS Support: FALSE; Sub-Family: FM Transmitters; DatasheetVersion: Rev. 1.1; PackageReference: QFN-20; PackageDescription: 20-Pin Quad-Flat No-Leads Package, Body 3 x 3 mm, Pitch 0.5 mm; Supplier 1: Digi-Key; Supplier Part Number 1: SI4710-B30-GMR-ND; Supplier 2: Mouser; Supplier Part Number 2: 634-SI4710-B30-GMR; Packing: Tape and Reel; Mounting Technology: Surface Mount; Code_IPC: J-STD-020; ComponentLink1Description: Manufacturer URL; ComponentLink1URL: http://www.silabs.com/; ComponentLink2Description: Datasheet; ComponentLink2URL: http://www.silabs.com/Support%20Documents/TechnicalDocs/Si4710-11-B30.pdf; ComponentLink3Description: Package Specification; ComponentLink3URL: http://www.silabs.com/Support%20Documents/TechnicalDocs/C8051F99x.pdf
footprint SLAB-QFN-20-1700x1700TP_V (QFN, 20-Leads, Body 3x3mm, Pitch 0.5mm, Thermal Pad 1.7x1.7mm)
pins: 1 NC "No connect. Leave floating.", 2 NC "No connect. Leave floating.", 3 RFGND (power) "RF ground. Connect to ground plane on PCB.", 4 TXO (out) "FM transmit output connection to transmit antenna", 5 ~{RST} (in) "Device reset (active low) input.", 6 ~{SEN} (in) "Serial enable input (active low).", 7 SCLK (in) "Serial clock input.", 8 SDIO (io) "Serial data input/output.", 9 RCLK (in) "External reference oscillator input.", 10 VIO (power) "I/O supply voltage.", 11 VDD (power) "Supply voltage. May be connected directly to battery.", 12 GND (power) "Ground. Connect to ground plane on PCB.", 13 DIN (in) "Digital input data.", 14 DFS (in) "Digital frame synchronization input.", 15 RIN (in) "Right audio line input.", 16 LIN (in) "Left audio line input.", 17 GPO3/DCLK (io) "General purpose output/digital bit synchronous clock input.", 18 GPO2/~{INT} (hiz) "General purpose output/interrupt request.", 19 GPO1 (hiz) "General purpose output.", 20 NC "No connect. Leave floating.", 21 GND (power) "Ground. Connect to ground plane on PCB."

## Si4711-B30-GM
designator U?
Si4710/11-B30 FM Radio Transmitter, -20 to 85 degC, 20-pin QFN, Tray; Manufacturer: Silicon Labs; PartNumber: Si4711-B30-GM; RDS Support: TRUE; Sub-Family: FM Transmitters; DatasheetVersion: Rev. 1.1; PackageReference: QFN-20; PackageDescription: 20-Pin Quad-Flat No-Leads Package, Body 3 x 3 mm, Pitch 0.5 mm; Supplier 1: Digi-Key; Supplier Part Number 1: SI4711-B30-GM-ND; Supplier 2: Mouser; Supplier Part Number 2: 634-SI4711-B30-GM; Packing: Tray; Mounting Technology: Surface Mount; Code_IPC: J-STD-020; ComponentLink1Description: Manufacturer URL; ComponentLink1URL: http://www.silabs.com/; ComponentLink2Description: Datasheet; ComponentLink2URL: http://www.silabs.com/Support%20Documents/TechnicalDocs/Si4710-11-B30.pdf; ComponentLink3Description: Package Specification; ComponentLink3URL: http://www.silabs.com/Support%20Documents/TechnicalDocs/C8051F99x.pdf
footprint SLAB-QFN-20-1700x1700TP_V (QFN, 20-Leads, Body 3x3mm, Pitch 0.5mm, Thermal Pad 1.7x1.7mm)
pins: 1 NC "No connect. Leave floating.", 2 NC "No connect. Leave floating.", 3 RFGND (power) "RF ground. Connect to ground plane on PCB.", 4 TXO (out) "FM transmit output connection to transmit antenna", 5 ~{RST} (in) "Device reset (active low) input.", 6 ~{SEN} (in) "Serial enable input (active low).", 7 SCLK (in) "Serial clock input.", 8 SDIO (io) "Serial data input/output.", 9 RCLK (in) "External reference oscillator input.", 10 VIO (power) "I/O supply voltage.", 11 VDD (power) "Supply voltage. May be connected directly to battery.", 12 GND (power) "Ground. Connect to ground plane on PCB.", 13 DIN (in) "Digital input data.", 14 DFS (in) "Digital frame synchronization input.", 15 RIN (in) "Right audio line input.", 16 LIN (in) "Left audio line input.", 17 GPO3/DCLK (io) "General purpose output/digital bit synchronous clock input.", 18 GPO2/~{INT} (hiz) "General purpose output/interrupt request.", 19 GPO1 (hiz) "General purpose output.", 20 NC "No connect. Leave floating.", 21 GND (power) "Ground. Connect to ground plane on PCB."

## Si4711-B30-GMR
designator U?
Si4710/11-B30 FM Radio Transmitter, -20 to 85 degC, 20-pin QFN, Tape and Reel; Manufacturer: Silicon Labs; PartNumber: Si4711-B30-GMR; RDS Support: TRUE; Sub-Family: FM Transmitters; DatasheetVersion: Rev. 1.1; PackageReference: QFN-20; PackageDescription: 20-Pin Quad-Flat No-Leads Package, Body 3 x 3 mm, Pitch 0.5 mm; Supplier 1: Digi-Key; Supplier Part Number 1: SI4711-B30-GMR-ND; Supplier 2: Mouser; Supplier Part Number 2: 634-SI4711-B30-GMR; Packing: Tape and Reel; Mounting Technology: Surface Mount; Code_IPC: J-STD-020; ComponentLink1Description: Manufacturer URL; ComponentLink1URL: http://www.silabs.com/; ComponentLink2Description: Datasheet; ComponentLink2URL: http://www.silabs.com/Support%20Documents/TechnicalDocs/Si4710-11-B30.pdf; ComponentLink3Description: Package Specification; ComponentLink3URL: http://www.silabs.com/Support%20Documents/TechnicalDocs/C8051F99x.pdf
footprint SLAB-QFN-20-1700x1700TP_V (QFN, 20-Leads, Body 3x3mm, Pitch 0.5mm, Thermal Pad 1.7x1.7mm)
pins: 1 NC "No connect. Leave floating.", 2 NC "No connect. Leave floating.", 3 RFGND (power) "RF ground. Connect to ground plane on PCB.", 4 TXO (out) "FM transmit output connection to transmit antenna", 5 ~{RST} (in) "Device reset (active low) input.", 6 ~{SEN} (in) "Serial enable input (active low).", 7 SCLK (in) "Serial clock input.", 8 SDIO (io) "Serial data input/output.", 9 RCLK (in) "External reference oscillator input.", 10 VIO (power) "I/O supply voltage.", 11 VDD (power) "Supply voltage. May be connected directly to battery.", 12 GND (power) "Ground. Connect to ground plane on PCB.", 13 DIN (in) "Digital input data.", 14 DFS (in) "Digital frame synchronization input.", 15 RIN (in) "Right audio line input.", 16 LIN (in) "Left audio line input.", 17 GPO3/DCLK (io) "General purpose output/digital bit synchronous clock input.", 18 GPO2/~{INT} (hiz) "General purpose output/interrupt request.", 19 GPO1 (hiz) "General purpose output.", 20 NC "No connect. Leave floating.", 21 GND (power) "Ground. Connect to ground plane on PCB."